# EAGLE library part CONN-HDMI (library FirePick)
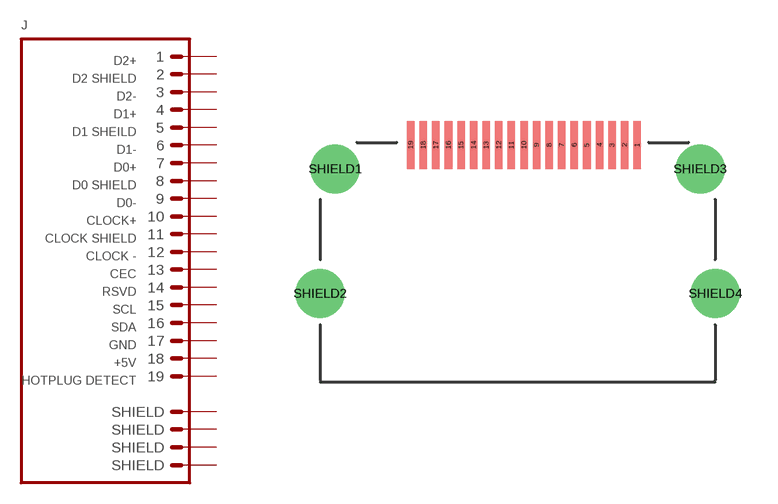
[diagram p1: symbol with the pads of CON-HDMI-FCI-10029449-001RLF; footprint CON-HDMI-FCI-10029449-001RLF]

Designator prefix J

## CONN-HDMI  [CON-HDMI-FCI-10029449-001RLF]
1  1  pas
2  2  pas
3  3  pas
4  4  pas
5  5  pas
6  6  pas
7  7  pas
8  8  pas
9  9  pas
10  10  pas
11  11  pas
12  12  pas
13  13  pas
14  14  pas
15  15  pas
16  16  pas
17  17  pas
18  18  pas
19  19  pas
SHIELD1  SHIELD  pas
SHIELD2  SHIELD  pas
SHIELD3  SHIELD  pas
SHIELD4  SHIELD  pas

## Footprint CON-HDMI-FCI-10029449-001RLF (pad centres in mm)
smd 0.3 x 1.9: 1 4.75,3.81; 2 4.25,3.81; 3 3.75,3.81; 4 3.25,3.81; 5 2.75,3.81; 6 2.25,3.81; 7 1.75,3.81; 8 1.25,3.81; 9 0.75,3.81; 10 0.25,3.81; 11 -0.25,3.81; 12 -0.75,3.81; 13 -1.25,3.81; 14 -1.75,3.81; 15 -2.25,3.81; 16 -2.75,3.81; 17 -3.25,3.81; 18 -3.75,3.81; 19 -4.25,3.81
drill 1.3: SHIELD1 -7.25,2.86; SHIELD2 -7.85,-2.09; SHIELD3 7.25,2.86; SHIELD4 7.85,-2.09